# EAGLE library part ADS7806U (library burr-brown)
12-Bit 100 kSPS ADC
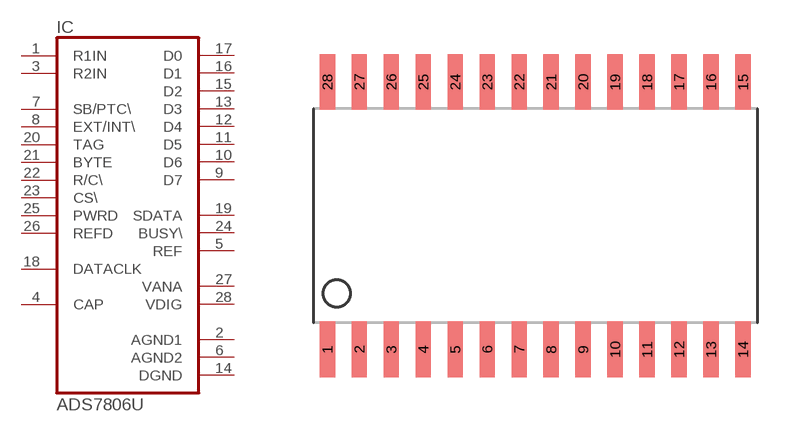
[diagram p46: symbol with the pads of SO28-3; footprint SO28-3]

Designator prefix IC

## ADS7806U  [SO28-3]
1  R1IN  in
2  AGND1  pwr
3  R2IN  in
4  CAP  pas
5  REF  out
6  AGND2  pwr
7  SB/PTC\  in
8  EXT/INT\  in
9  D7  out
10  D6  out
11  D5  out
12  D4  out
13  D3  out
14  DGND  pwr
15  D2  out
16  D1  out
17  D0  out
18  DATACLK
19  SDATA  out
20  TAG  in
21  BYTE  in
22  R/C\  in
23  CS\  in
24  BUSY\  out
25  PWRD  in
26  REFD  in
27  VANA  pwr
28  VDIG  pwr

## Footprint SO28-3 (pad centres in mm)
smd 0.61 x 2.21: 1 -8.255,-5.315; 2 -6.985,-5.315; 3 -5.715,-5.315; 4 -4.445,-5.315; 5 -3.175,-5.315; 6 -1.905,-5.315; 7 -0.635,-5.315; 8 0.635,-5.315; 9 1.905,-5.315; 10 3.175,-5.315; 11 4.445,-5.315; 12 5.715,-5.315; 13 6.985,-5.315; 14 8.255,-5.315; 15 8.255,5.315; 16 6.985,5.315; 17 5.715,5.315; 18 4.445,5.315; 19 3.175,5.315; 20 1.905,5.315; 21 0.635,5.315; 22 -0.635,5.315; 23 -1.905,5.315; 24 -3.175,5.315; 25 -4.445,5.315; 26 -5.715,5.315; 27 -6.985,5.315; 28 -8.255,5.315